# Altium schematic symbol library CC0805MKX5R6BB226.SchLib: 2 symbols
Pins are listed as number, name and electrical type; pins without a type are passive.

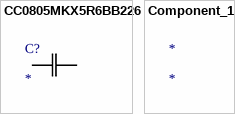
[diagram p0: symbols CC0805MKX5R6BB226 to Component_1]

## CC0805MKX5R6BB226
designator C?
No Description Available; Mfr_Name: Yageo
footprint CAP_CC0805_YAG
pins: 1, 2

## Component_1
designator *